# EAGLE library part ADG3304 (library MyAmSys)
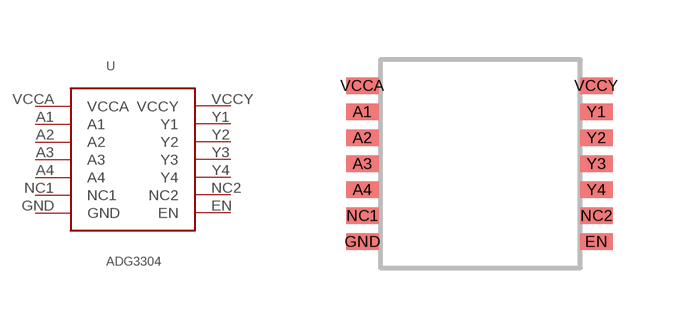
[diagram p1: symbol with the pads of ADG3304; footprint ADG3304]

Designator prefix -

## ADG3304  [ADG3304]
A1  A1
A2  A2
A3  A3
A4  A4
EN  EN
GND  GND
NC1  NC1
NC2  NC2
VCCA  VCCA
VCCY  VCCY
Y1  Y1
Y2  Y2
Y3  Y3
Y4  Y4

## Footprint ADG3304 (pad centres in mm)
smd 0.813 x 0.406: A1 0,1.3; A2 0,0.65; A3 0,0; A4 0,-0.65; EN 5.85,-1.95; GND 0,-1.95; NC1 0,-1.3; NC2 5.85,-1.3; VCCA 0,1.95; VCCY 5.85,1.95; Y1 5.85,1.3; Y2 5.85,0.65; Y3 5.85,0; Y4 5.85,-0.65